# Altium schematic symbol library SCH - MICROCONTROLLER - 7B-Quarz.SCHLIB: 1 symbol
Pins are listed as number, name and electrical type; pins without a type are passive.

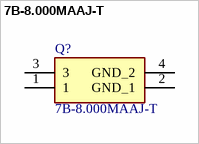
[diagram p0: symbol 7B-8.000MAAJ-T]

## 7B-8.000MAAJ-T
designator Q?
Crystal or Oscillator
pins: 1, 2 GND_1, 3, 4 GND_2